# Altium integrated library Analog Devices RF IF Direct Digital Synthesis.IntLib: 76 symbols (part 4 of 9)
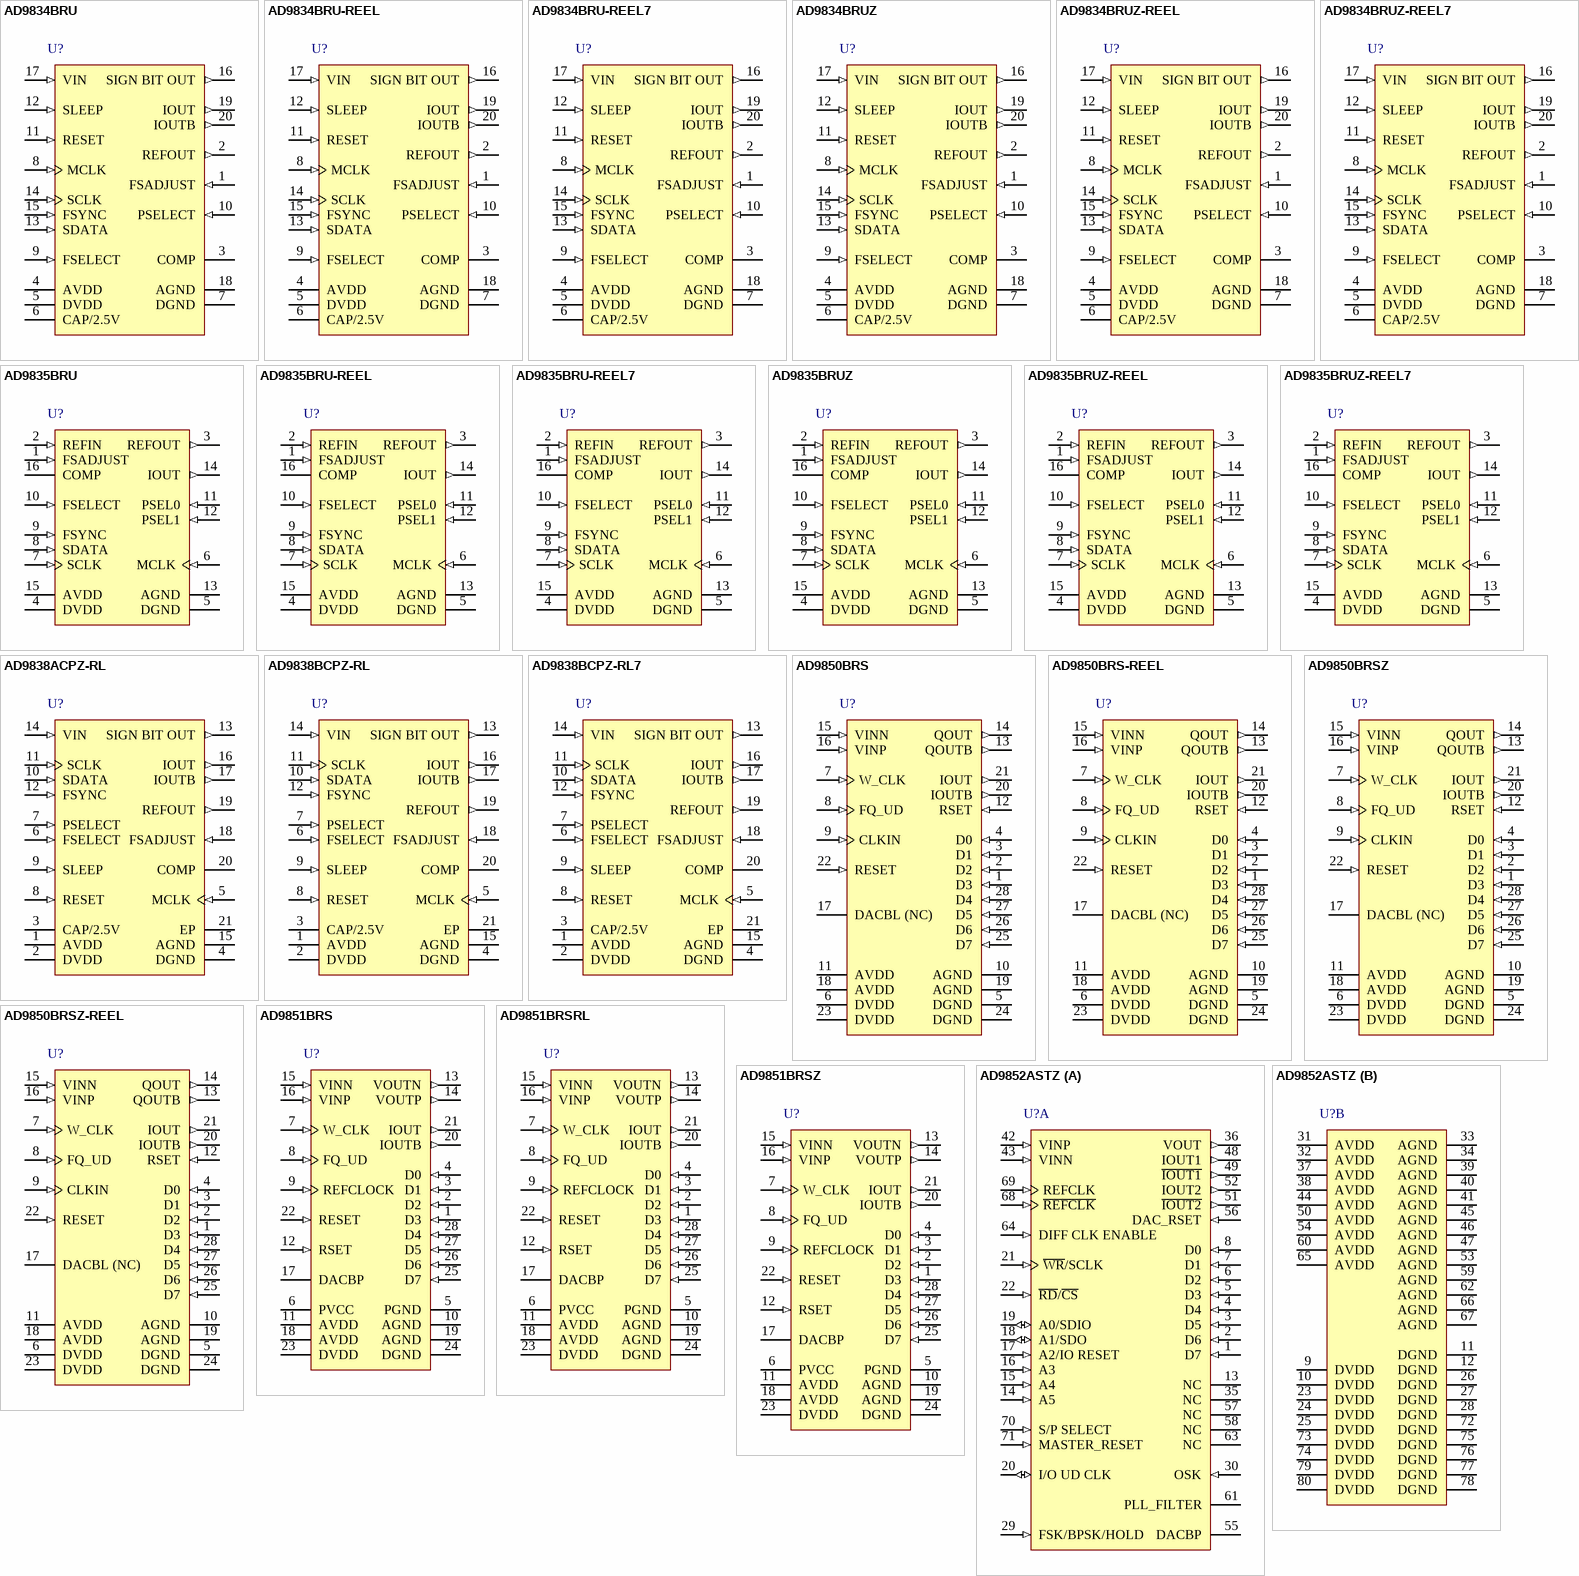
[diagram p8: symbols AD9834BRU to AD9852ASTZ]

## AD9850BRS-REEL
designator U?
CMOS, 125 MHz Complete DDS Synthesizer, 10-Bit, Parallel, Serial, RS-28, 1500 Reel; Master fclk: 125MHz; Resolution (Bits): 10bit; Tuning Word Width (bits): 32bit; REFCLK Multiplier: No; Compliance Range (V): 1.5V; FS Iout (mA nom): 20mA; I Supply total (max): 96mA; DatasheetVersion: Rev. H; PackageVersion: revA, 1997; PackageReference: RS-28; PackageDescription: 28-Lead Shrink Small Outline Package [SSOP]; I/O Interface: Parallel, Serial; Code_JEDEC: MO-150-AH; ComponentLink1Description: Manufacturer URL; ComponentLink1URL: www.analog.com; ComponentLink2Description: Datasheet; ComponentLink2URL: http://www.analog.com/static/imported-files/data_sheets/AD9850.pdf; ComponentLink3Description: Package Specification; ComponentLink3URL: http://www.analog.com/static/imported-files/packages/32122249223724RS_28.pdf
footprint ADI-RS-28_N (SOP, 28-Leads, Body 10.2x5.3mm, Pitch 0.65mm, IPC Medium Density)
footprint ADI-RS-28_L (SOP, 28-Leads, Body 10.2x5.3mm, Pitch 0.65mm, IPC High Density)
footprint ADI-RS-28_M (SOP, 28-Leads, Body 10.2x5.3mm, Pitch 0.65mm, IPC Low Density)
pins: 1 D3 (in) "8-Bit Data Input. This is the 8-bit data port for iteratively loading the 32-bit frequency and the 8-bit phase/ control word. D7 = MSB; D0 = LSB. [see datasheet]", 2 D2 (in) "8-Bit Data Input. This is the 8-bit data port for iteratively loading the 32-bit frequency and the 8-bit phase/ control word. D7 = MSB; D0 = LSB. [see datasheet]", 3 D1 (in) "8-Bit Data Input. This is the 8-bit data port for iteratively loading the 32-bit frequency and the 8-bit phase/ control word. D7 = MSB; D0 = LSB. [see datasheet]", 4 D0 (in) "8-Bit Data Input. This is the 8-bit data port for iteratively loading the 32-bit frequency and the 8-bit phase/ control word. D7 = MSB; D0 = LSB. [see datasheet]", 5 DGND (power) "Digital Ground. These are the ground return leads for the digital circuitry", 6 DVDD (power) "Supply Voltage Leads for Digital Circuitry", 7 W_CLK (in) "Word Load Clock. This clock is used to load the parallel or serial frequency/phase/control words", 8 FQ_UD (in) "Frequency Update. On the rising edge of this clock, the DDS updates to the frequency (or phase) loaded in the data input register; it then resets the pointer to Word 0", 9 CLKIN (in) "Reference Clock Input. This may be a continuous CMOS-level pulse train or sine input biased at1/2 V supply. The rising edge of this clock initiates operatio", 10 AGND (power) "Analog Ground. These leads are the ground return for the analog circuitry (DAC and comparator)", 11 AVDD (power) "Supply Voltage for the Analog Circuitry (DAC and Comparator).", 12 RSET (in) "DAC’s External RSET Connection. This resistor value sets the DAC full-scale output current. For normal applications (FS IOUT = 10 mA), the value for RSET is 3.9 k? connected to ground. [see datasheet]", 13 QOUTB (out) "Output Complement. This is the comparator’s complement output.", 14 QOUT (out) "Output True. This is the comparator’s true output.", 15 VINN (in) "Inverting Voltage Input. This is the comparator’s negative input.", 16 VINP (in) "Noninverting Voltage Input. This is the comparator’s positive input.", 17 DACBL (NC) "DAC Baseline. This is the DAC baseline voltage reference; this lead is internally bypassed and should normally be considered a no connect for optimum performance", 18 AVDD (power) "Supply Voltage for the Analog Circuitry (DAC and Comparator).", 19 AGND (power) "Analog Ground. These leads are the ground return for the analog circuitry (DAC and comparator)", 20 IOUTB (out) "Complementary Analog Output of the DAC.", 21 IOUT (out) "Analog Current Output of the DAC.", 22 RESET (in) "Reset. This is the master reset function; when set high, it clears all registers (except the input register), and the DAC output goes to cosine 0 after additional clock cycles-see Figure 7", 23 DVDD (power) "Supply Voltage Leads for Digital Circuitry", 24 DGND (power) "Digital Ground. These are the ground return leads for the digital circuitry", 25 D7 (in) "8-Bit Data Input. This is the 8-bit data port for iteratively loading the 32-bit frequency and the 8-bit phase/ control word. D7 = MSB; D0 = LSB. [see datasheet]", 26 D6 (in) "8-Bit Data Input. This is the 8-bit data port for iteratively loading the 32-bit frequency and the 8-bit phase/ control word. D7 = MSB; D0 = LSB. [see datasheet]", 27 D5 (in) "8-Bit Data Input. This is the 8-bit data port for iteratively loading the 32-bit frequency and the 8-bit phase/ control word. D7 = MSB; D0 = LSB. [see datasheet]", 28 D4 (in) "8-Bit Data Input. This is the 8-bit data port for iteratively loading the 32-bit frequency and the 8-bit phase/ control word. D7 = MSB; D0 = LSB. [see datasheet]"

## AD9850BRSZ
designator U?
CMOS, 125 MHz Complete DDS Synthesizer, 10-Bit, Parallel, Serial, RS-28, 47 Tube, Pb-Free; Master fclk: 125MHz; Resolution (Bits): 10bit; Tuning Word Width (bits): 32bit; REFCLK Multiplier: No; Compliance Range (V): 1.5V; FS Iout (mA nom): 20mA; I Supply total (max): 96mA; DatasheetVersion: Rev. H; PackageVersion: revA, 1997; PackageReference: RS-28; PackageDescription: 28-Lead Shrink Small Outline Package [SSOP]; I/O Interface: Parallel, Serial; Code_JEDEC: MO-150-AH; ComponentLink1Description: Manufacturer URL; ComponentLink1URL: www.analog.com; ComponentLink2Description: Datasheet; ComponentLink2URL: http://www.analog.com/static/imported-files/data_sheets/AD9850.pdf; ComponentLink3Description: Package Specification; ComponentLink3URL: http://www.analog.com/static/imported-files/packages/32122249223724RS_28.pdf
footprint ADI-RS-28_N (SOP, 28-Leads, Body 10.2x5.3mm, Pitch 0.65mm, IPC Medium Density)
footprint ADI-RS-28_L (SOP, 28-Leads, Body 10.2x5.3mm, Pitch 0.65mm, IPC High Density)
footprint ADI-RS-28_M (SOP, 28-Leads, Body 10.2x5.3mm, Pitch 0.65mm, IPC Low Density)
pins: 1 D3 (in) "8-Bit Data Input. This is the 8-bit data port for iteratively loading the 32-bit frequency and the 8-bit phase/ control word. D7 = MSB; D0 = LSB. [see datasheet]", 2 D2 (in) "8-Bit Data Input. This is the 8-bit data port for iteratively loading the 32-bit frequency and the 8-bit phase/ control word. D7 = MSB; D0 = LSB. [see datasheet]", 3 D1 (in) "8-Bit Data Input. This is the 8-bit data port for iteratively loading the 32-bit frequency and the 8-bit phase/ control word. D7 = MSB; D0 = LSB. [see datasheet]", 4 D0 (in) "8-Bit Data Input. This is the 8-bit data port for iteratively loading the 32-bit frequency and the 8-bit phase/ control word. D7 = MSB; D0 = LSB. [see datasheet]", 5 DGND (power) "Digital Ground. These are the ground return leads for the digital circuitry", 6 DVDD (power) "Supply Voltage Leads for Digital Circuitry", 7 W_CLK (in) "Word Load Clock. This clock is used to load the parallel or serial frequency/phase/control words", 8 FQ_UD (in) "Frequency Update. On the rising edge of this clock, the DDS updates to the frequency (or phase) loaded in the data input register; it then resets the pointer to Word 0", 9 CLKIN (in) "Reference Clock Input. This may be a continuous CMOS-level pulse train or sine input biased at1/2 V supply. The rising edge of this clock initiates operatio", 10 AGND (power) "Analog Ground. These leads are the ground return for the analog circuitry (DAC and comparator)", 11 AVDD (power) "Supply Voltage for the Analog Circuitry (DAC and Comparator).", 12 RSET (in) "DAC’s External RSET Connection. This resistor value sets the DAC full-scale output current. For normal applications (FS IOUT = 10 mA), the value for RSET is 3.9 k? connected to ground. [see datasheet]", 13 QOUTB (out) "Output Complement. This is the comparator’s complement output.", 14 QOUT (out) "Output True. This is the comparator’s true output.", 15 VINN (in) "Inverting Voltage Input. This is the comparator’s negative input.", 16 VINP (in) "Noninverting Voltage Input. This is the comparator’s positive input.", 17 DACBL (NC) "DAC Baseline. This is the DAC baseline voltage reference; this lead is internally bypassed and should normally be considered a no connect for optimum performance", 18 AVDD (power) "Supply Voltage for the Analog Circuitry (DAC and Comparator).", 19 AGND (power) "Analog Ground. These leads are the ground return for the analog circuitry (DAC and comparator)", 20 IOUTB (out) "Complementary Analog Output of the DAC.", 21 IOUT (out) "Analog Current Output of the DAC.", 22 RESET (in) "Reset. This is the master reset function; when set high, it clears all registers (except the input register), and the DAC output goes to cosine 0 after additional clock cycles-see Figure 7", 23 DVDD (power) "Supply Voltage Leads for Digital Circuitry", 24 DGND (power) "Digital Ground. These are the ground return leads for the digital circuitry", 25 D7 (in) "8-Bit Data Input. This is the 8-bit data port for iteratively loading the 32-bit frequency and the 8-bit phase/ control word. D7 = MSB; D0 = LSB. [see datasheet]", 26 D6 (in) "8-Bit Data Input. This is the 8-bit data port for iteratively loading the 32-bit frequency and the 8-bit phase/ control word. D7 = MSB; D0 = LSB. [see datasheet]", 27 D5 (in) "8-Bit Data Input. This is the 8-bit data port for iteratively loading the 32-bit frequency and the 8-bit phase/ control word. D7 = MSB; D0 = LSB. [see datasheet]", 28 D4 (in) "8-Bit Data Input. This is the 8-bit data port for iteratively loading the 32-bit frequency and the 8-bit phase/ control word. D7 = MSB; D0 = LSB. [see datasheet]"

## AD9850BRSZ-REEL
designator U?
CMOS, 125 MHz Complete DDS Synthesizer, 10-Bit, Parallel, Serial, RS-28, 1500 Reel, Pb-Free; Master fclk: 125MHz; Resolution (Bits): 10bit; Tuning Word Width (bits): 32bit; REFCLK Multiplier: No; Compliance Range (V): 1.5V; FS Iout (mA nom): 20mA; I Supply total (max): 96mA; DatasheetVersion: Rev. H; PackageVersion: revA, 1997; PackageReference: RS-28; PackageDescription: 28-Lead Shrink Small Outline Package [SSOP]; I/O Interface: Parallel, Serial; Code_JEDEC: MO-150-AH; ComponentLink1Description: Manufacturer URL; ComponentLink1URL: www.analog.com; ComponentLink2Description: Datasheet; ComponentLink2URL: http://www.analog.com/static/imported-files/data_sheets/AD9850.pdf; ComponentLink3Description: Package Specification; ComponentLink3URL: http://www.analog.com/static/imported-files/packages/32122249223724RS_28.pdf
footprint ADI-RS-28_N (SOP, 28-Leads, Body 10.2x5.3mm, Pitch 0.65mm, IPC Medium Density)
footprint ADI-RS-28_L (SOP, 28-Leads, Body 10.2x5.3mm, Pitch 0.65mm, IPC High Density)
footprint ADI-RS-28_M (SOP, 28-Leads, Body 10.2x5.3mm, Pitch 0.65mm, IPC Low Density)
pins: 1 D3 (in) "8-Bit Data Input. This is the 8-bit data port for iteratively loading the 32-bit frequency and the 8-bit phase/ control word. D7 = MSB; D0 = LSB. [see datasheet]", 2 D2 (in) "8-Bit Data Input. This is the 8-bit data port for iteratively loading the 32-bit frequency and the 8-bit phase/ control word. D7 = MSB; D0 = LSB. [see datasheet]", 3 D1 (in) "8-Bit Data Input. This is the 8-bit data port for iteratively loading the 32-bit frequency and the 8-bit phase/ control word. D7 = MSB; D0 = LSB. [see datasheet]", 4 D0 (in) "8-Bit Data Input. This is the 8-bit data port for iteratively loading the 32-bit frequency and the 8-bit phase/ control word. D7 = MSB; D0 = LSB. [see datasheet]", 5 DGND (power) "Digital Ground. These are the ground return leads for the digital circuitry", 6 DVDD (power) "Supply Voltage Leads for Digital Circuitry", 7 W_CLK (in) "Word Load Clock. This clock is used to load the parallel or serial frequency/phase/control words", 8 FQ_UD (in) "Frequency Update. On the rising edge of this clock, the DDS updates to the frequency (or phase) loaded in the data input register; it then resets the pointer to Word 0", 9 CLKIN (in) "Reference Clock Input. This may be a continuous CMOS-level pulse train or sine input biased at1/2 V supply. The rising edge of this clock initiates operatio", 10 AGND (power) "Analog Ground. These leads are the ground return for the analog circuitry (DAC and comparator)", 11 AVDD (power) "Supply Voltage for the Analog Circuitry (DAC and Comparator).", 12 RSET (in) "DAC’s External RSET Connection. This resistor value sets the DAC full-scale output current. For normal applications (FS IOUT = 10 mA), the value for RSET is 3.9 k? connected to ground. [see datasheet]", 13 QOUTB (out) "Output Complement. This is the comparator’s complement output.", 14 QOUT (out) "Output True. This is the comparator’s true output.", 15 VINN (in) "Inverting Voltage Input. This is the comparator’s negative input.", 16 VINP (in) "Noninverting Voltage Input. This is the comparator’s positive input.", 17 DACBL (NC) "DAC Baseline. This is the DAC baseline voltage reference; this lead is internally bypassed and should normally be considered a no connect for optimum performance", 18 AVDD (power) "Supply Voltage for the Analog Circuitry (DAC and Comparator).", 19 AGND (power) "Analog Ground. These leads are the ground return for the analog circuitry (DAC and comparator)", 20 IOUTB (out) "Complementary Analog Output of the DAC.", 21 IOUT (out) "Analog Current Output of the DAC.", 22 RESET (in) "Reset. This is the master reset function; when set high, it clears all registers (except the input register), and the DAC output goes to cosine 0 after additional clock cycles-see Figure 7", 23 DVDD (power) "Supply Voltage Leads for Digital Circuitry", 24 DGND (power) "Digital Ground. These are the ground return leads for the digital circuitry", 25 D7 (in) "8-Bit Data Input. This is the 8-bit data port for iteratively loading the 32-bit frequency and the 8-bit phase/ control word. D7 = MSB; D0 = LSB. [see datasheet]", 26 D6 (in) "8-Bit Data Input. This is the 8-bit data port for iteratively loading the 32-bit frequency and the 8-bit phase/ control word. D7 = MSB; D0 = LSB. [see datasheet]", 27 D5 (in) "8-Bit Data Input. This is the 8-bit data port for iteratively loading the 32-bit frequency and the 8-bit phase/ control word. D7 = MSB; D0 = LSB. [see datasheet]", 28 D4 (in) "8-Bit Data Input. This is the 8-bit data port for iteratively loading the 32-bit frequency and the 8-bit phase/ control word. D7 = MSB; D0 = LSB. [see datasheet]"

## AD9851BRS
designator U?
CMOS 180 MHz DDS/DAC Synthesizer, 10-Bit, Parallel, Serial, RS-28, 47 Tube; Master fclk: 180MHz; Resolution (Bits): 10bit; Tuning Word Width (bits): 32bit; REFCLK Multiplier: Yes; Compliance Range (V): 1.5V; FS Iout (mA nom): 20mA; I Supply total (max): 130mA; DatasheetVersion: Rev. D; PackageVersion: revA, 1997; PackageReference: RS-28; PackageDescription: 28-Lead Shrink Small Outline Package [SSOP]; I/O Interface: Parallel, Serial; Code_JEDEC: MO-150-AH; ComponentLink1Description: Manufacturer URL; ComponentLink1URL: www.analog.com; ComponentLink2Description: Datasheet; ComponentLink2URL: http://www.analog.com/static/imported-files/data_sheets/AD9851.pdf; ComponentLink3Description: Package Specification; ComponentLink3URL: http://www.analog.com/static/imported-files/packages/32122249223724RS_28.pdf
footprint ADI-RS-28_N (SOP, 28-Leads, Body 10.2x5.3mm, Pitch 0.65mm, IPC Medium Density)
footprint ADI-RS-28_L (SOP, 28-Leads, Body 10.2x5.3mm, Pitch 0.65mm, IPC High Density)
footprint ADI-RS-28_M (SOP, 28-Leads, Body 10.2x5.3mm, Pitch 0.65mm, IPC Low Density)
pins: 1 D3 (in) "8-Bit Data Input. The data port for loading the 32-bit frequency and 8-bit phase/control words. D7 = MSB;D0 = LSB. D7, Pin 25, also serves as the input pin for 40-bit serial data word.", 2 D2 (in) "8-Bit Data Input. The data port for loading the 32-bit frequency and 8-bit phase/control words. D7 = MSB;D0 = LSB. D7, Pin 25, also serves as the input pin for 40-bit serial data word.", 3 D1 (in) "8-Bit Data Input. The data port for loading the 32-bit frequency and 8-bit phase/control words. D7 = MSB;D0 = LSB. D7, Pin 25, also serves as the input pin for 40-bit serial data word.", 4 D0 (in) "8-Bit Data Input. The data port for loading the 32-bit frequency and 8-bit phase/control words. D7 = MSB;D0 = LSB. D7, Pin 25, also serves as the input pin for 40-bit serial data word.", 5 PGND (power) "6X REFCLK Multiplier Ground Connection.", 6 PVCC (power) "6X REFCLK Multiplier Positive Supply Voltage Pin.", 7 W_CLK (in) "Word Load Clock. Rising edge loads the parallel or serial frequency/phase/control words asynchronously into the 40-bit input register.", 8 FQ_UD (in) "Frequency Update. A rising edge asynchronously transfers the contents of the 40-bit input register to be acted upon by the DDS core. [see datasheet]", 9 REFCLOCK (in) "Reference Clock Input. CMOS/TTL-level pulse train, direct or via the 6X REFCLK Multiplier. In direct mode, this is also the SYSTEM CLOCK. [see datasheet]", 10 AGND (power) "Analog Ground. The ground return for the analog circuitry (DAC and Comparator).", 11 AVDD (power) "Positive supply voltage for analog circuitry (DAC and Comparator, Pin 18) and bandgap volt age ref er ence,Pin 11.", 12 RSET (in) "The DAC’s external RSET connection—nominally a 3.92 kohms resistor to ground for 10 mA out. This sets the DAC full-scale output current available from IOUT and IOUTB. RSET = 39.93/IOUT.", 13 VOUTN (out) "Voltage Output Negative. The comparator’s complementary CMOS logic level output.", 14 VOUTP (out) "Voltage Output Positive. The comparator’s true CMOS logic level output.", 15 VINN (in) "Voltage Input Negative. The comparator’s inverting input.", 16 VINP (in) "Voltage Input Positive. The comparator’s noninverting input.", 17 DACBP "DAC Bypass Connection. This is the DAC voltage reference bypass connection normally NC (NO CONNECT) for optimum SFDR performance.", 18 AVDD (power) "Positive supply voltage for analog circuitry (DAC and Comparator, Pin 18) and bandgap volt age ref er ence,Pin 11.", 19 AGND (power) "Analog Ground. The ground return for the analog circuitry (DAC and Comparator).", 20 IOUTB (out) "The complementary DAC output with same characteristics as IOUT except that IOUTB = (full-scale output–IOUT). Output load should equal that of IOUT for best SFDR performance.", 21 IOUT (out) "The true output of the balanced DAC. Current is sourcing and requires current-to-voltage conversion, usually a resistor or transformer referenced to GND. IOUT = (full-scale output–IOUTB).", 22 RESET (in) "Master Reset pin; active high; clears DDS accumulator and phase offset register to achieve 0 Hz and 0 degrees output phase. Sets programming to parallel mode and disengages the 6? REFCLK Multiplier. [see datasheet]", 23 DVDD (power) "Positive supply voltage pin for digital circuitry.", 24 DGND (power) "Digital Ground. The ground return pin for the digital circuitry.", 25 D7 (in) "8-Bit Data Input. The data port for loading the 32-bit frequency and 8-bit phase/control words. D7 = MSB;D0 = LSB. D7, Pin 25, also serves as the input pin for 40-bit serial data word.", 26 D6 (in) "8-Bit Data Input. The data port for loading the 32-bit frequency and 8-bit phase/control words. D7 = MSB;D0 = LSB. D7, Pin 25, also serves as the input pin for 40-bit serial data word.", 27 D5 (in) "8-Bit Data Input. The data port for loading the 32-bit frequency and 8-bit phase/control words. D7 = MSB;D0 = LSB. D7, Pin 25, also serves as the input pin for 40-bit serial data word.", 28 D4 (in) "8-Bit Data Input. The data port for loading the 32-bit frequency and 8-bit phase/control words. D7 = MSB;D0 = LSB. D7, Pin 25, also serves as the input pin for 40-bit serial data word."

## AD9851BRSRL
designator U?
CMOS 180 MHz DDS/DAC Synthesizer, 10-Bit, Parallel, Serial, RS-28, 1500 Reel,Pb-Free; Master fclk: 180MHz; Resolution (Bits): 10bit; Tuning Word Width (bits): 32bit; REFCLK Multiplier: Yes; Compliance Range (V): 1.5V; FS Iout (mA nom): 20mA; I Supply total (max): 130mA; DatasheetVersion: Rev. D; PackageVersion: revA, 1997; PackageReference: RS-28; PackageDescription: 28-Lead Shrink Small Outline Package [SSOP]; I/O Interface: Parallel, Serial; Code_JEDEC: MO-150-AH; ComponentLink1Description: Manufacturer URL; ComponentLink1URL: www.analog.com; ComponentLink2Description: Datasheet; ComponentLink2URL: http://www.analog.com/static/imported-files/data_sheets/AD9851.pdf; ComponentLink3Description: Package Specification; ComponentLink3URL: http://www.analog.com/static/imported-files/packages/32122249223724RS_28.pdf
footprint ADI-RS-28_N (SOP, 28-Leads, Body 10.2x5.3mm, Pitch 0.65mm, IPC Medium Density)
footprint ADI-RS-28_L (SOP, 28-Leads, Body 10.2x5.3mm, Pitch 0.65mm, IPC High Density)
footprint ADI-RS-28_M (SOP, 28-Leads, Body 10.2x5.3mm, Pitch 0.65mm, IPC Low Density)
pins: 1 D3 (in) "8-Bit Data Input. The data port for loading the 32-bit frequency and 8-bit phase/control words. D7 = MSB;D0 = LSB. D7, Pin 25, also serves as the input pin for 40-bit serial data word.", 2 D2 (in) "8-Bit Data Input. The data port for loading the 32-bit frequency and 8-bit phase/control words. D7 = MSB;D0 = LSB. D7, Pin 25, also serves as the input pin for 40-bit serial data word.", 3 D1 (in) "8-Bit Data Input. The data port for loading the 32-bit frequency and 8-bit phase/control words. D7 = MSB;D0 = LSB. D7, Pin 25, also serves as the input pin for 40-bit serial data word.", 4 D0 (in) "8-Bit Data Input. The data port for loading the 32-bit frequency and 8-bit phase/control words. D7 = MSB;D0 = LSB. D7, Pin 25, also serves as the input pin for 40-bit serial data word.", 5 PGND (power) "6X REFCLK Multiplier Ground Connection.", 6 PVCC (power) "6X REFCLK Multiplier Positive Supply Voltage Pin.", 7 W_CLK (in) "Word Load Clock. Rising edge loads the parallel or serial frequency/phase/control words asynchronously into the 40-bit input register.", 8 FQ_UD (in) "Frequency Update. A rising edge asynchronously transfers the contents of the 40-bit input register to be acted upon by the DDS core. [see datasheet]", 9 REFCLOCK (in) "Reference Clock Input. CMOS/TTL-level pulse train, direct or via the 6X REFCLK Multiplier. In direct mode, this is also the SYSTEM CLOCK. [see datasheet]", 10 AGND (power) "Analog Ground. The ground return for the analog circuitry (DAC and Comparator).", 11 AVDD (power) "Positive supply voltage for analog circuitry (DAC and Comparator, Pin 18) and bandgap volt age ref er ence,Pin 11.", 12 RSET (in) "The DAC’s external RSET connection—nominally a 3.92 kohms resistor to ground for 10 mA out. This sets the DAC full-scale output current available from IOUT and IOUTB. RSET = 39.93/IOUT.", 13 VOUTN (out) "Voltage Output Negative. The comparator’s complementary CMOS logic level output.", 14 VOUTP (out) "Voltage Output Positive. The comparator’s true CMOS logic level output.", 15 VINN (in) "Voltage Input Negative. The comparator’s inverting input.", 16 VINP (in) "Voltage Input Positive. The comparator’s noninverting input.", 17 DACBP "DAC Bypass Connection. This is the DAC voltage reference bypass connection normally NC (NO CONNECT) for optimum SFDR performance.", 18 AVDD (power) "Positive supply voltage for analog circuitry (DAC and Comparator, Pin 18) and bandgap volt age ref er ence,Pin 11.", 19 AGND (power) "Analog Ground. The ground return for the analog circuitry (DAC and Comparator).", 20 IOUTB (out) "The complementary DAC output with same characteristics as IOUT except that IOUTB = (full-scale output–IOUT). Output load should equal that of IOUT for best SFDR performance.", 21 IOUT (out) "The true output of the balanced DAC. Current is sourcing and requires current-to-voltage conversion, usually a resistor or transformer referenced to GND. IOUT = (full-scale output–IOUTB).", 22 RESET (in) "Master Reset pin; active high; clears DDS accumulator and phase offset register to achieve 0 Hz and 0 degrees output phase. Sets programming to parallel mode and disengages the 6? REFCLK Multiplier. [see datasheet]", 23 DVDD (power) "Positive supply voltage pin for digital circuitry.", 24 DGND (power) "Digital Ground. The ground return pin for the digital circuitry.", 25 D7 (in) "8-Bit Data Input. The data port for loading the 32-bit frequency and 8-bit phase/control words. D7 = MSB;D0 = LSB. D7, Pin 25, also serves as the input pin for 40-bit serial data word.", 26 D6 (in) "8-Bit Data Input. The data port for loading the 32-bit frequency and 8-bit phase/control words. D7 = MSB;D0 = LSB. D7, Pin 25, also serves as the input pin for 40-bit serial data word.", 27 D5 (in) "8-Bit Data Input. The data port for loading the 32-bit frequency and 8-bit phase/control words. D7 = MSB;D0 = LSB. D7, Pin 25, also serves as the input pin for 40-bit serial data word.", 28 D4 (in) "8-Bit Data Input. The data port for loading the 32-bit frequency and 8-bit phase/control words. D7 = MSB;D0 = LSB. D7, Pin 25, also serves as the input pin for 40-bit serial data word."

## AD9851BRSZ
designator U?
CMOS 180 MHz DDS/DAC Synthesizer, 10-Bit, Parallel, Serial, RS-28, 47 Tube,Pb-Free; Master fclk: 180MHz; Resolution (Bits): 10bit; Tuning Word Width (bits): 32bit; REFCLK Multiplier: Yes; Compliance Range (V): 1.5V; FS Iout (mA nom): 20mA; I Supply total (max): 130mA; DatasheetVersion: Rev. D; PackageVersion: revA, 1997; PackageReference: RS-28; PackageDescription: 28-Lead Shrink Small Outline Package [SSOP]; I/O Interface: Parallel, Serial; Code_JEDEC: MO-150-AH; ComponentLink1Description: Manufacturer URL; ComponentLink1URL: www.analog.com; ComponentLink2Description: Datasheet; ComponentLink2URL: http://www.analog.com/static/imported-files/data_sheets/AD9851.pdf; ComponentLink3Description: Package Specification; ComponentLink3URL: http://www.analog.com/static/imported-files/packages/32122249223724RS_28.pdf
footprint ADI-RS-28_N (SOP, 28-Leads, Body 10.2x5.3mm, Pitch 0.65mm, IPC Medium Density)
footprint ADI-RS-28_L (SOP, 28-Leads, Body 10.2x5.3mm, Pitch 0.65mm, IPC High Density)
footprint ADI-RS-28_M (SOP, 28-Leads, Body 10.2x5.3mm, Pitch 0.65mm, IPC Low Density)
pins: 1 D3 (in) "8-Bit Data Input. The data port for loading the 32-bit frequency and 8-bit phase/control words. D7 = MSB;D0 = LSB. D7, Pin 25, also serves as the input pin for 40-bit serial data word.", 2 D2 (in) "8-Bit Data Input. The data port for loading the 32-bit frequency and 8-bit phase/control words. D7 = MSB;D0 = LSB. D7, Pin 25, also serves as the input pin for 40-bit serial data word.", 3 D1 (in) "8-Bit Data Input. The data port for loading the 32-bit frequency and 8-bit phase/control words. D7 = MSB;D0 = LSB. D7, Pin 25, also serves as the input pin for 40-bit serial data word.", 4 D0 (in) "8-Bit Data Input. The data port for loading the 32-bit frequency and 8-bit phase/control words. D7 = MSB;D0 = LSB. D7, Pin 25, also serves as the input pin for 40-bit serial data word.", 5 PGND (power) "6X REFCLK Multiplier Ground Connection.", 6 PVCC (power) "6X REFCLK Multiplier Positive Supply Voltage Pin.", 7 W_CLK (in) "Word Load Clock. Rising edge loads the parallel or serial frequency/phase/control words asynchronously into the 40-bit input register.", 8 FQ_UD (in) "Frequency Update. A rising edge asynchronously transfers the contents of the 40-bit input register to be acted upon by the DDS core. [see datasheet]", 9 REFCLOCK (in) "Reference Clock Input. CMOS/TTL-level pulse train, direct or via the 6X REFCLK Multiplier. In direct mode, this is also the SYSTEM CLOCK. [see datasheet]", 10 AGND (power) "Analog Ground. The ground return for the analog circuitry (DAC and Comparator).", 11 AVDD (power) "Positive supply voltage for analog circuitry (DAC and Comparator, Pin 18) and bandgap volt age ref er ence,Pin 11.", 12 RSET (in) "The DAC’s external RSET connection—nominally a 3.92 kohms resistor to ground for 10 mA out. This sets the DAC full-scale output current available from IOUT and IOUTB. RSET = 39.93/IOUT.", 13 VOUTN (out) "Voltage Output Negative. The comparator’s complementary CMOS logic level output.", 14 VOUTP (out) "Voltage Output Positive. The comparator’s true CMOS logic level output.", 15 VINN (in) "Voltage Input Negative. The comparator’s inverting input.", 16 VINP (in) "Voltage Input Positive. The comparator’s noninverting input.", 17 DACBP "DAC Bypass Connection. This is the DAC voltage reference bypass connection normally NC (NO CONNECT) for optimum SFDR performance.", 18 AVDD (power) "Positive supply voltage for analog circuitry (DAC and Comparator, Pin 18) and bandgap volt age ref er ence,Pin 11.", 19 AGND (power) "Analog Ground. The ground return for the analog circuitry (DAC and Comparator).", 20 IOUTB (out) "The complementary DAC output with same characteristics as IOUT except that IOUTB = (full-scale output–IOUT). Output load should equal that of IOUT for best SFDR performance.", 21 IOUT (out) "The true output of the balanced DAC. Current is sourcing and requires current-to-voltage conversion, usually a resistor or transformer referenced to GND. IOUT = (full-scale output–IOUTB).", 22 RESET (in) "Master Reset pin; active high; clears DDS accumulator and phase offset register to achieve 0 Hz and 0 degrees output phase. Sets programming to parallel mode and disengages the 6? REFCLK Multiplier. [see datasheet]", 23 DVDD (power) "Positive supply voltage pin for digital circuitry.", 24 DGND (power) "Digital Ground. The ground return pin for the digital circuitry.", 25 D7 (in) "8-Bit Data Input. The data port for loading the 32-bit frequency and 8-bit phase/control words. D7 = MSB;D0 = LSB. D7, Pin 25, also serves as the input pin for 40-bit serial data word.", 26 D6 (in) "8-Bit Data Input. The data port for loading the 32-bit frequency and 8-bit phase/control words. D7 = MSB;D0 = LSB. D7, Pin 25, also serves as the input pin for 40-bit serial data word.", 27 D5 (in) "8-Bit Data Input. The data port for loading the 32-bit frequency and 8-bit phase/control words. D7 = MSB;D0 = LSB. D7, Pin 25, also serves as the input pin for 40-bit serial data word.", 28 D4 (in) "8-Bit Data Input. The data port for loading the 32-bit frequency and 8-bit phase/control words. D7 = MSB;D0 = LSB. D7, Pin 25, also serves as the input pin for 40-bit serial data word."

## AD9852ASTZ
designator U?
CMOS 300 MSPS Complete DDS, 12-Bit, ST-80-2, 90 Tray, Pb-Free; Master fclk: 300MHz; Resolution (Bits): 12bit; Tuning Word Width (bits): 48bit; Compliance Range (V): 1V; FS Iout (mA nom): 20mA; I Supply total (max): 922mA; DatasheetVersion: Rev. E; PackageVersion: 10/5/2004; PackageReference: ST-80-2; PackageDescription: 80-Lead Low Profile Quad Flat Package [LQFP]; Code_JEDEC: MS-026-BEC; ComponentLink1Description: Manufacturer URL; ComponentLink1URL: www.analog.com; ComponentLink2Description: Datasheet; ComponentLink2URL: http://www.analog.com/static/imported-files/data_sheets/AD9852.pdf; ComponentLink3Description: Package Specification; ComponentLink3URL: http://www.analog.com/static/imported-files/packages/397423600143391396199409ST_80_2.pdf
footprint ADI-ST-80-2_N (Thin QFP, 80-Leads, Body 14 x 14mm, Pitch 0.65mm, IPC Medium Density)
footprint ADI-ST-80-2_L (Thin QFP, 80-Leads, Body 14 x 14mm, Pitch 0.65mm, IPC High Density)
footprint ADI-ST-80-2_M (Thin QFP, 80-Leads, Body 14 x 14mm, Pitch 0.65mm, IPC Low Density)
part A pins: 1 D7 (in) "8-Bit Bidirectional Parallel Programming Data Inputs. Used only in parallel programming mode.", 2 D6 (in) "8-Bit Bidirectional Parallel Programming Data Inputs. Used only in parallel programming mode.", 3 D5 (in) "8-Bit Bidirectional Parallel Programming Data Inputs. Used only in parallel programming mode.", 4 D4 (in) "8-Bit Bidirectional Parallel Programming Data Inputs. Used only in parallel programming mode.", 5 D3 (in) "8-Bit Bidirectional Parallel Programming Data Inputs. Used only in parallel programming mode.", 6 D2 (in) "8-Bit Bidirectional Parallel Programming Data Inputs. Used only in parallel programming mode.", 7 D1 (in) "8-Bit Bidirectional Parallel Programming Data Inputs. Used only in parallel programming mode.", 8 D0 (in) "8-Bit Bidirectional Parallel Programming Data Inputs. Used only in parallel programming mode.", 13 NC "No Internal Connection.", 14 A5 (in) "Parallel Address Inputs for Program Registers (Part of 6-Bit Parallel Address Inputs for Program Register, A5:A0). Used only in parallel programming mode.", 15 A4 (in) "Parallel Address Inputs for Program Registers (Part of 6-Bit Parallel Address Inputs for Program Register, A5:A0). Used only in parallel programming mode.", 16 A3 (in) "Parallel Address Inputs for Program Registers (Part of 6-Bit Parallel Address Inputs for Program Register, A5:A0). Used only in parallel programming mode.", 17 A2/IO RESET (in) "Parallel Address Input for Program Registers (Part of 6-Bit Parallel Address Inputs for Program Register,A5:A0)/IO Reset. A2 is used only in parallel programming mode. [see datasheet]", 18 A1/SDO (io) "Parallel Address Input for Program Registers (Part of 6-Bit Parallel Address Inputs for Program Register, A5:A0)/Unidirectional Serial Data Output. [see datasheet]", 19 A0/SDIO (io) "Parallel Address Input for Program Registers (Part of 6-Bit Parallel Address Inputs for Program Register, A5:A0)/Bidirectional Serial Data Input/Output. [see datasheet]", 20 I/O UD CLK (io) "Bidirectional I/O Update Clock. Direction is selected in control register. If selected as an input, a rising edge transfers the contents of the I/O port buffers to the programming registers. [see datasheet]", 21 ~{WR}/SCLK (in) "Write Parallel Data to I/O Port Buffers. Shared function with SCLK. Serial clock signal associated with the serial programming bus. [see datasheet]", 22 ~{RD}/~{CS} (in) "Read Parallel Data from Programming Registers. Shared function with CS. Chip select signal associated with the serial programming bus. [see datasheet]", 29 FSK/BPSK/HOLD (in) "Multifunction Pin. Functions according to the mode of operation selected in the programming control register. If in the FSK mode, logic low selects F1 and logic high selects F2. [see datasheet]", 30 OSK (in) "Output Shaped Keying. Must first be selected in the programming control register to function. A logic high causes the cosine DAC outputs to ramp up from zero-scale to full-scale amplitude at a preprogrammed rate. [see datasheet]", 35 NC "No Internal Connection.", 36 VOUT (out) "Noninverted Output of the Internal High Speed Comparator. Designed to drive 10 dBm to 50  ohm loads as well as standard CMOS logic levels", 42 VINP (in) "Voltage Input Positive. The noninverting input of the internal high speed comparator.", 43 VINN (in) "Voltage Input Negative. The inverting input of the internal high speed comparator.", 48 IOUT1 (out) "Unipolar Current Output of the Cosine DAC (refer to Figure 3)", 49 ~{IOUT1} (out) "Complementary Unipolar Current Output of the Cosine DAC", 51 ~{IOUT2} (out) "Complementary Unipolar Current Output of the Cosine DAC", 52 IOUT2 (out) "Unipolar Current Output of the Control DAC", 55 DACBP "Common Bypass Capacitor Connection for Both DACs. A 0.01 uF chip capacitor from this pin to AVDD improves harmonic distortion and SFDR slightly. [see datasheet]", 56 DAC_RSET (in) "Common Connection for Both DACs. Used to set the full-scale output current. RSET = 39.9/ IOUT.Normal RSET range is from 8 k ohm (5 mA) to 2 k ohm (20 mA).", 57 NC "No Internal Connection.", 58 NC "No Internal Connection.", 61 PLL_FILTER "Connection for the External Zero-Compensation Network of the REFCLK Multiplier’s PLL Loop Filter. The zero-compensation network consists of a 1.3 k ohm resistor in series with a 0.01 uF capacitor. [see datasheet]", 63 NC "No Internal Connection.", 64 DIFF CLK ENABLE (in) "Differential REFCLK Enable. A high level of this pin enables the differential clock inputs, REFCLK and REFCLK (Pin 69 and Pin 68, respectively).", 68 ~{REFCLK} (in) "Complementary (180 degrees Out of Phase) Differential Clock Signal. User should tie this pin high or low when single-ended clock mode is selected. Same signal levels as REFCLK.", 69 REFCLK (in) "Single-Ended (CMOS Logic Levels Required) Reference Clock Input or One of Two Differential Clock Signals. In differential reference clock mode, both inputs can be C", 70 S/P SELECT (in) "Selects between serial programming mode (logic low) and parallel programming mode (logic high).", 71 MASTER_RESET (in) "Initializes the serial/parallel programming bus to prepare for user programming, and sets programming registers to a do-nothing state defined by the default values listed in Table 9. [see datasheet]"
part B pins: 9 DVDD (power) "Connections for the Digital Circuitry Supply Voltage. Nominally 3.3 V more positive than AGND and DGND.", 10 DVDD (power) "Connections for the Digital Circuitry Supply Voltage. Nominally 3.3 V more positive than AGND and DGND.", 11 DGND (power) "Connections for Digital Circuitry Ground Return. Same potential as AGND", 12 DGND (power) "Connections for Digital Circuitry Ground Return. Same potential as AGND", 23 DVDD (power) "Connections for the Digital Circuitry Supply Voltage. Nominally 3.3 V more positive than AGND and DGND.", 24 DVDD (power) "Connections for the Digital Circuitry Supply Voltage. Nominally 3.3 V more positive than AGND and DGND.", 25 DVDD (power) "Connections for the Digital Circuitry Supply Voltage. Nominally 3.3 V more positive than AGND and DGND.", 26 DGND (power) "Connections for Digital Circuitry Ground Return. Same potential as AGND", 27 DGND (power) "Connections for Digital Circuitry Ground Return. Same potential as AGND", 28 DGND (power) "Connections for Digital Circuitry Ground Return. Same potential as AGND", 31 AVDD (power) "Connections for the Analog Circuitry Supply Voltage. Nominally 3.3 V more positive than AGND and DGND", 32 AVDD (power) "Connections for the Analog Circuitry Supply Voltage. Nominally 3.3 V more positive than AGND and DGND", 33 AGND (power) "Connections for Analog Circuitry Ground Return. Same potential as DGND.", 34 AGND (power) "Connections for Analog Circuitry Ground Return. Same potential as DGND.", 37 AVDD (power) "Connections for the Analog Circuitry Supply Voltage. Nominally 3.3 V more positive than AGND and DGND", 38 AVDD (power) "Connections for the Analog Circuitry Supply Voltage. Nominally 3.3 V more positive than AGND and DGND", 39 AGND (power) "Connections for Analog Circuitry Ground Return. Same potential as DGND.", 40 AGND (power) "Connections for Analog Circuitry Ground Return. Same potential as DGND.", 41 AGND (power) "Connections for Analog Circuitry Ground Return. Same potential as DGND.", 44 AVDD (power) "Connections for the Analog Circuitry Supply Voltage. Nominally 3.3 V more positive than AGND and DGND", 45 AGND (power) "Connections for Analog Circuitry Ground Return. Same potential as DGND.", 46 AGND (power) "Connections for Analog Circuitry Ground Return. Same potential as DGND.", 47 AGND (power) "Connections for Analog Circuitry Ground Return. Same potential as DGND.", 50 AVDD (power) "Connections for the Analog Circuitry Supply Voltage. Nominally 3.3 V more positive than AGND and DGND", 53 AGND (power) "Connections for Analog Circuitry Ground Return. Same potential as DGND.", 54 AVDD (power) "Connections for the Analog Circuitry Supply Voltage. Nominally 3.3 V more positive than AGND and DGND", 59 AGND (power) "Connections for Analog Circuitry Ground Return. Same potential as DGND.", 60 AVDD (power) "Connections for the Analog Circuitry Supply Voltage. Nominally 3.3 V more positive than AGND and DGND", 62 AGND (power) "Connections for Analog Circuitry Ground Return. Same potential as DGND.", 65 AVDD (power) "Connections for the Analog Circuitry Supply Voltage. Nominally 3.3 V more positive than AGND and DGND", 66 AGND (power) "Connections for Analog Circuitry Ground Return. Same potential as DGND.", 67 AGND (power) "Connections for Analog Circuitry Ground Return. Same potential as DGND.", 72 DGND (power) "Connections for Digital Circuitry Ground Return. Same potential as AGND", 73 DVDD (power) "Connections for the Digital Circuitry Supply Voltage. Nominally 3.3 V more positive than AGND and DGND.", 74 DVDD (power) "Connections for the Digital Circuitry Supply Voltage. Nominally 3.3 V more positive than AGND and DGND.", 75 DGND (power) "Connections for Digital Circuitry Ground Return. Same potential as AGND", 76 DGND (power) "Connections for Digital Circuitry Ground Return. Same potential as AGND", 77 DGND (power) "Connections for Digital Circuitry Ground Return. Same potential as AGND", 78 DGND (power) "Connections for Digital Circuitry Ground Return. Same potential as AGND", 79 DVDD (power) "Connections for the Digital Circuitry Supply Voltage. Nominally 3.3 V more positive than AGND and DGND.", 80 DVDD (power) "Connections for the Digital Circuitry Supply Voltage. Nominally 3.3 V more positive than AGND and DGND."

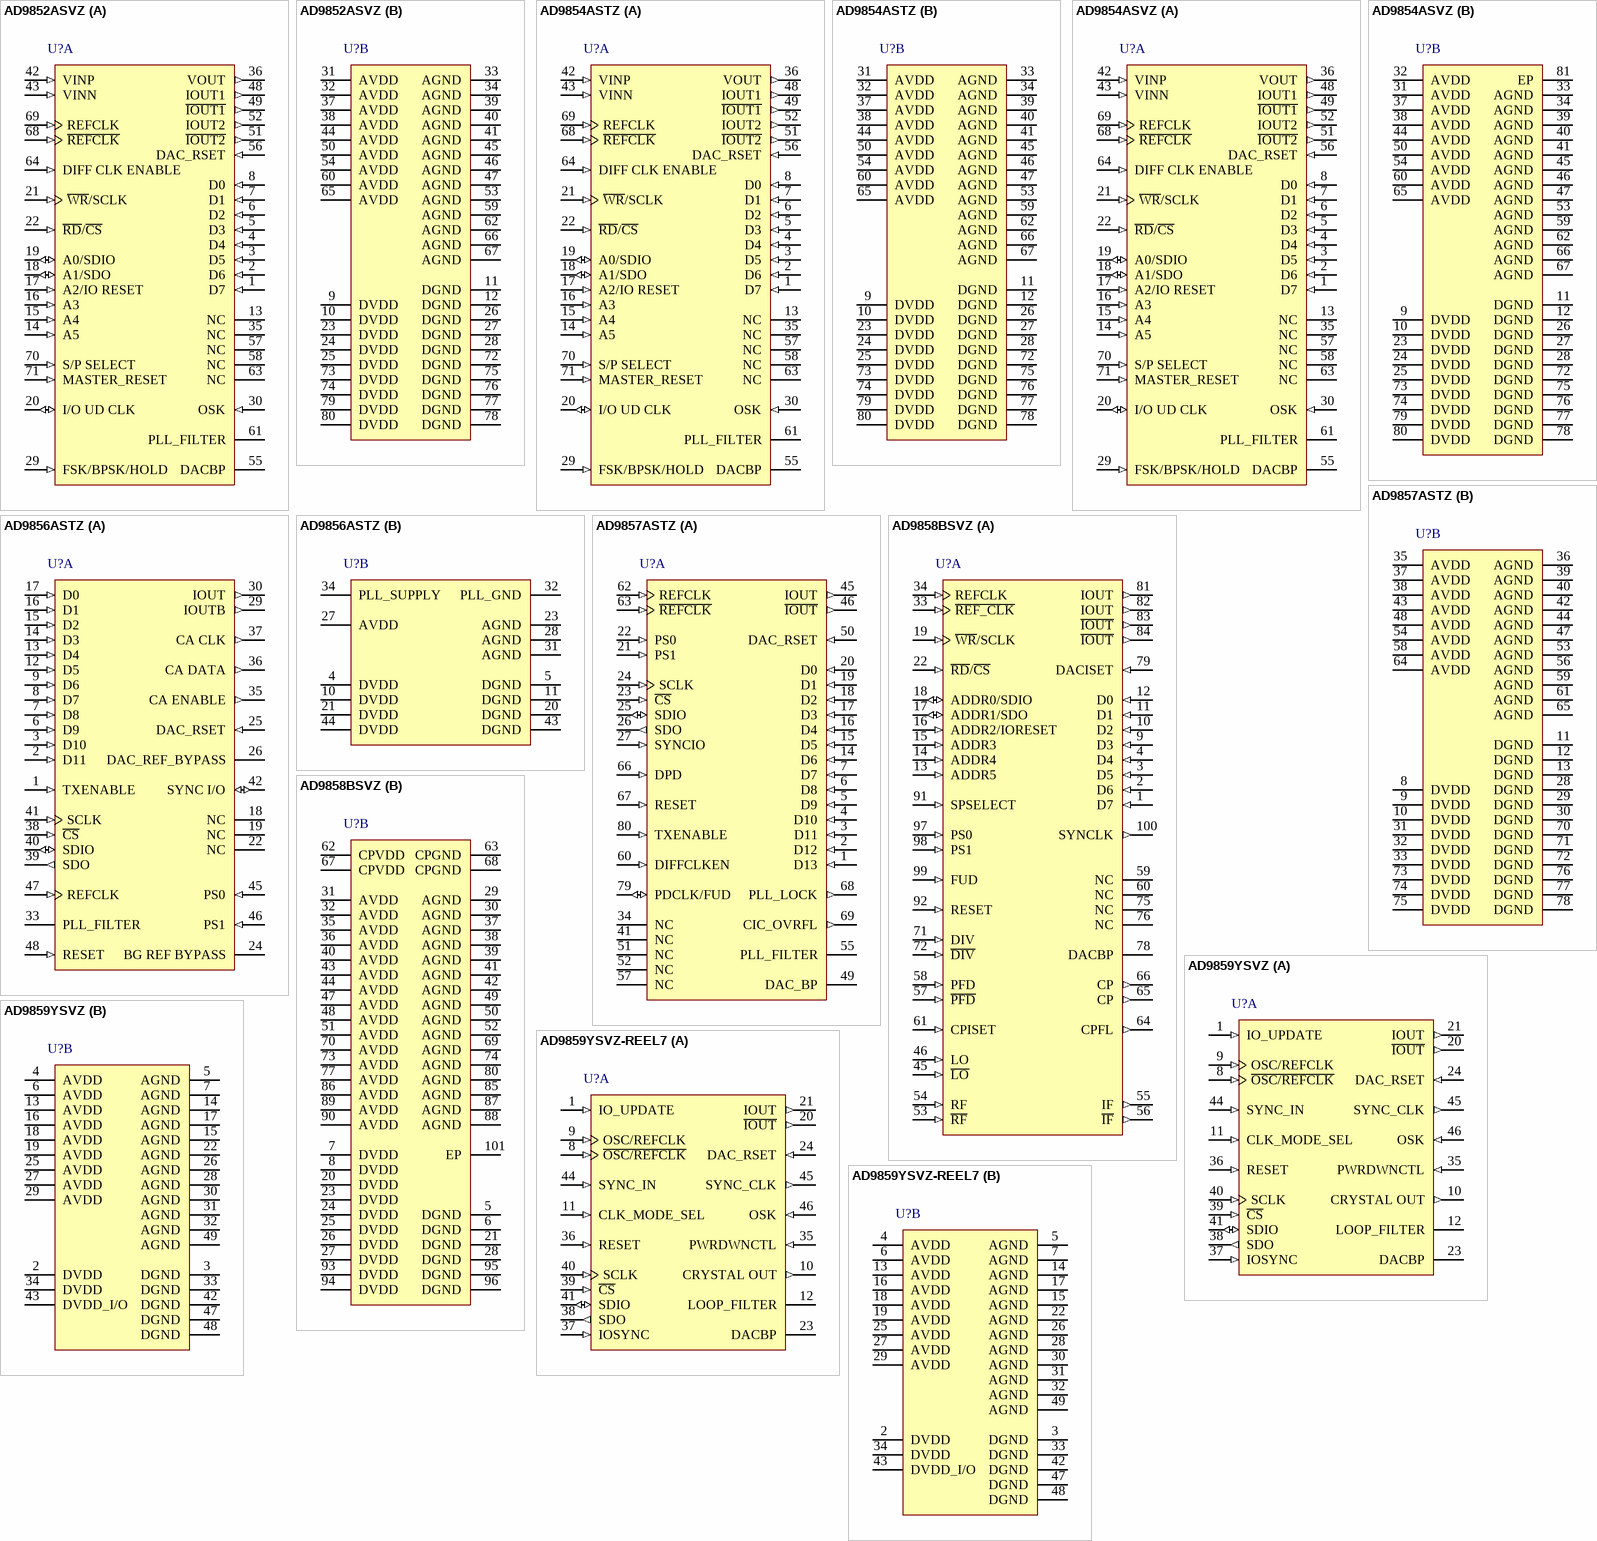
[diagram p2: symbols AD9852ASVZ to AD9859YSVZ-REEL7]